# EAGLE library part 62202021821 (library Wurth_Elektronik_Electromechanic_Board_to_Board_Connectors_rev16a)
WR-PHD 1.27mm Dual Socket Header, 20 Pins=>Code : Con_BTB_SHD_1.27_2_62202021821 <http://katalog.we-online.de/media/thumbs2/eican/thb_Con_BTB_SHD_1.27_2_6220xx21821_pf2.jpg> Details see: http://katalog.we-online.de/en/em/622_0xx_218_21 Created 2014-06-04, Karrer Zheng 2014 (C) Würth Elektronik
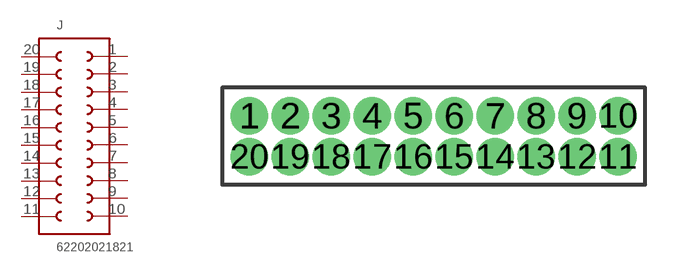
[diagram p305: symbol with the pads of 62202021821; footprint 62202021821]

Designator prefix J

## 62202021821  [62202021821]
1  1  pas
2  2  pas
3  3  pas
4  4  pas
5  5  pas
6  6  pas
7  7  pas
8  8  pas
9  9  pas
10  10  pas
11  11  pas
12  12  pas
13  13  pas
14  14  pas
15  15  pas
16  16  pas
17  17  pas
18  18  pas
19  19  pas
20  20  pas

## Footprint 62202021821 (pad centres in mm)
WR-PHD 1.27mm Dual Socket Header, 20 Pins
drill 0.65: 1 -5.715,0.635; 2 -4.445,0.635; 3 -3.175,0.635; 4 -1.905,0.635; 5 -0.635,0.635; 6 0.635,0.635; 7 1.905,0.635; 8 3.175,0.635; 9 4.445,0.635; 10 5.715,0.635; 11 5.715,-0.635; 12 4.445,-0.635; 13 3.175,-0.635; 14 1.905,-0.635; 15 0.635,-0.635; 16 -0.635,-0.635; 17 -1.905,-0.635; 18 -3.175,-0.635; 19 -4.445,-0.635; 20 -5.715,-0.635